# Altium footprint library Infineon.PcbLib: 1 footprints
Each footprint in its own frame and in the unit in brackets; x right, y up, seen from the top. Pads: shape width x height; smd on the part's side, far side on the other; paste and mask are expansions set on the pad; w line width, h text height; cw(c..) or ccw(c..) is an arc to the next point about the centre after c.
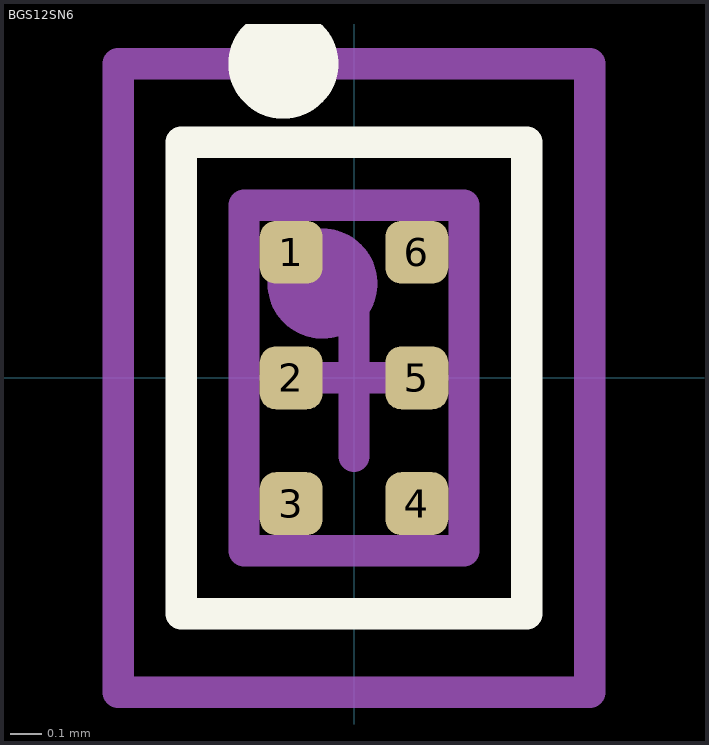
[diagram p0: the footprint, top view; thin cyan lines are the x and y axes]

## BGS12SN6 [mm]
height 0.375
pads (6):
  rrect50% 0.2x0.2 smd: 1(-0.2,0.4) 2(-0.2,0) 3(-0.2,-0.4) 4(0.2,-0.4) 5(0.2,0) 6(0.2,0.4)
Top Overlay:
  circle w0.3: c-0.225,1 r0.025
  lines w0.1: -0.55,-0.75 -0.55,0.75 0.55,0.75 0.55,-0.75 -0.55,-0.75
3D Top:
  circle w0.2: c-0.1,0.3 r0.075
  lines w0.1: -0.35,-0.55 0.35,-0.55 0.35,0.55 -0.35,0.55 -0.35,-0.55
Courtyard Top:
  lines w0.1: -0.25,0 0.25,0 ; 0,-0.25 0,0.25 ; -0.75,-1 0.75,-1 0.75,1 -0.75,1 -0.75,-1
3D body: height 0.38, standoff 0, extent -0.35,-0.55 0.35,0.55